# Altium footprint library WP-SMRT.PcbLib: 7 footprints
Each footprint in its own frame and in the unit in brackets; x right, y up, seen from the top. Pads: shape width x height; smd on the part's side, far side on the other; paste and mask are expansions set on the pad; w line width, h text height; cw(c..) or ccw(c..) is an arc to the next point about the centre after c.
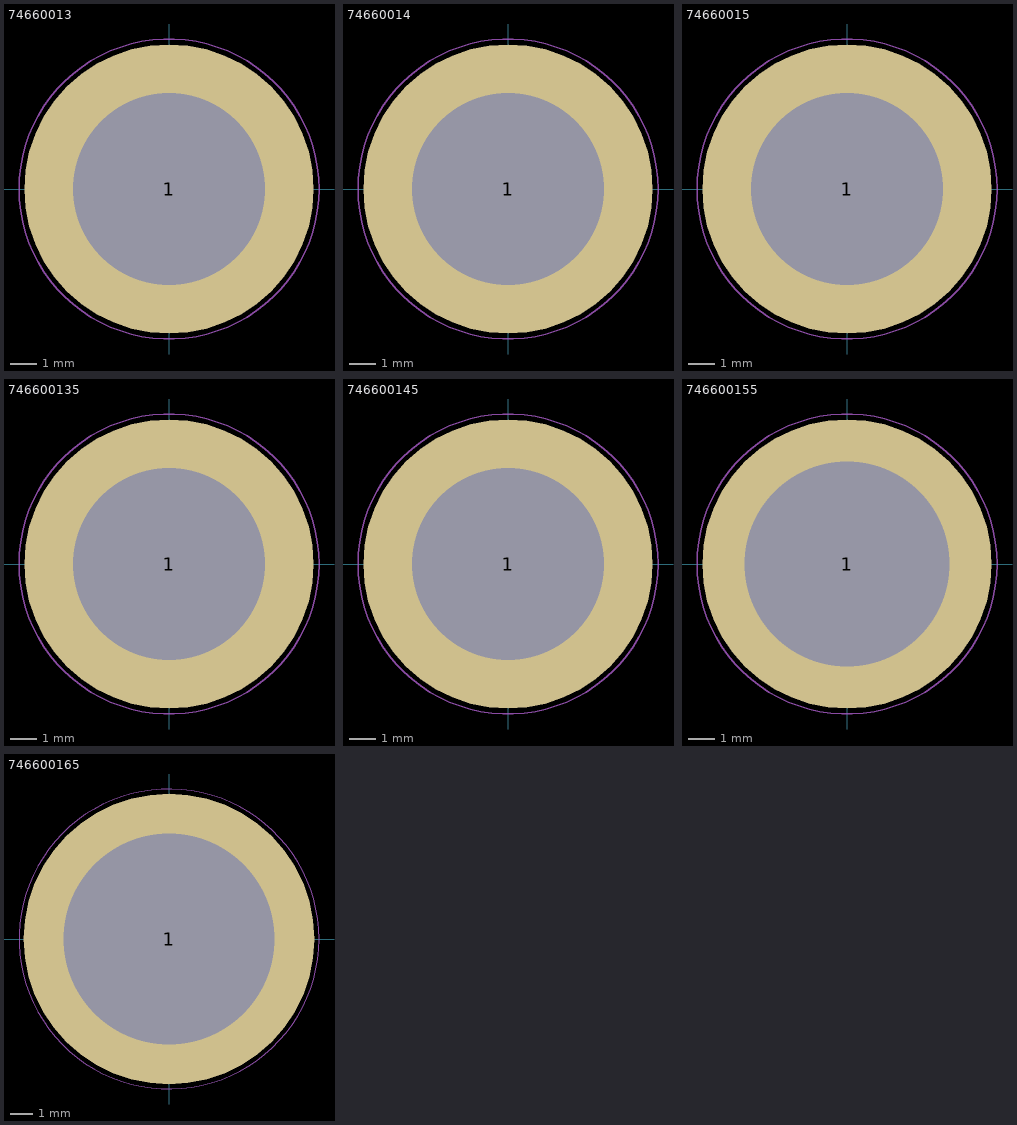
[diagram p0: the footprints below, top view; thin cyan lines are the x and y axes]

## 74660013 [mm] "Bush SMD open"
height 3
pads (1):
  round 11 / inner round 0 / far side round 0 hole 7.3 unplated: 1(0,0)
Top Paste:
  region: 0.5,5.377 0.811,5.348 1.421,5.219 2.013,5.02 2.578,4.755 3.109,4.427 3.598,4.039 4.039,3.598 4.427,3.109 4.755,2.578 5.02,2.013 5.219,1.421 5.348,0.811 5.377,0.5 3.716,0.5 3.663,0.801 3.485,1.384 3.214,1.931 2.859,2.427 2.427,2.859 1.931,3.214 1.385,3.485 0.801,3.663 0.5,3.716
  region: 5.377,-0.5 5.348,-0.811 5.219,-1.421 5.02,-2.013 4.755,-2.578 4.427,-3.109 4.039,-3.598 3.598,-4.039 3.109,-4.427 2.578,-4.755 2.013,-5.02 1.421,-5.219 0.811,-5.348 0.5,-5.377 0.5,-3.716 0.801,-3.663 1.384,-3.485 1.931,-3.214 2.427,-2.859 2.859,-2.427 3.214,-1.931 3.485,-1.385 3.663,-0.801 3.716,-0.5
  region: -0.5,-5.377 -0.811,-5.348 -1.421,-5.219 -2.013,-5.02 -2.578,-4.755 -3.109,-4.427 -3.598,-4.039 -4.039,-3.598 -4.427,-3.109 -4.755,-2.578 -5.02,-2.013 -5.219,-1.421 -5.348,-0.811 -5.377,-0.5 -3.716,-0.5 -3.663,-0.801 -3.485,-1.384 -3.214,-1.931 -2.859,-2.427 -2.427,-2.859 -1.931,-3.214 -1.385,-3.485 -0.801,-3.663 -0.5,-3.716
  region: -5.377,0.5 -5.348,0.811 -5.219,1.421 -5.02,2.013 -4.755,2.578 -4.427,3.109 -4.039,3.598 -3.598,4.039 -3.109,4.427 -2.578,4.755 -2.013,5.02 -1.421,5.219 -0.811,5.348 -0.5,5.377 -0.5,3.716 -0.801,3.663 -1.384,3.485 -1.931,3.214 -2.427,2.859 -2.859,2.427 -3.214,1.931 -3.485,1.385 -3.663,0.801 -3.716,0.5
Top Designator:
  text ".Designator" at -7.498,-0.5 h1.5
Top Component Outline:
  circle w0.1: c0,0 r5
Top 3D Body:
  circle w0.1: c0,0 r5
Top Courtyard:
  circle w0.05: c0,0 r5.7
  lines w0.05: -0.5,0 0.5,0 ; 0,-0.5 0,0.5
3D body "74660013.stp": height 3, standoff -2.6, extent -5,-5 5,5

## 74660014 [mm] "Bush SMD open"
height 3
pads (1):
  round 11 / inner round 0 / far side round 0 hole 7.3 unplated: 1(0,0)
Top Paste:
  region: 0.5,5.377 0.811,5.348 1.421,5.219 2.013,5.02 2.578,4.755 3.109,4.427 3.598,4.039 4.039,3.598 4.427,3.109 4.755,2.578 5.02,2.013 5.219,1.421 5.348,0.811 5.377,0.5 3.717,0.5 3.664,0.801 3.485,1.384 3.214,1.931 2.859,2.427 2.427,2.859 1.931,3.214 1.384,3.485 0.801,3.664 0.5,3.717
  region: -5.377,0.5 -5.348,0.811 -5.219,1.421 -5.02,2.013 -4.755,2.578 -4.427,3.109 -4.039,3.598 -3.598,4.039 -3.109,4.427 -2.578,4.755 -2.013,5.02 -1.421,5.219 -0.811,5.348 -0.5,5.377 -0.5,3.717 -0.801,3.664 -1.384,3.485 -1.931,3.214 -2.427,2.859 -2.859,2.427 -3.214,1.931 -3.485,1.384 -3.664,0.801 -3.717,0.5
  region: -0.5,-5.377 -0.811,-5.348 -1.421,-5.219 -2.013,-5.02 -2.578,-4.755 -3.109,-4.427 -3.598,-4.039 -4.039,-3.598 -4.427,-3.109 -4.755,-2.578 -5.02,-2.013 -5.219,-1.421 -5.348,-0.811 -5.377,-0.5 -3.717,-0.5 -3.664,-0.801 -3.485,-1.384 -3.214,-1.931 -2.859,-2.427 -2.427,-2.859 -1.931,-3.214 -1.384,-3.485 -0.801,-3.664 -0.5,-3.717
  region: 5.377,-0.5 5.348,-0.811 5.219,-1.421 5.02,-2.013 4.755,-2.578 4.427,-3.109 4.039,-3.598 3.598,-4.039 3.109,-4.427 2.578,-4.755 2.013,-5.02 1.421,-5.219 0.811,-5.348 0.5,-5.377 0.5,-3.717 0.801,-3.664 1.384,-3.485 1.931,-3.214 2.427,-2.859 2.859,-2.427 3.214,-1.931 3.485,-1.384 3.664,-0.801 3.717,-0.5
Top Designator:
  text ".Designator" at -7.498,-0.5 h1.5
Top Component Outline:
  circle w0.1: c0,0 r5
Top 3D Body:
  circle w0.1: c0,0 r5
Top Courtyard:
  circle w0.05: c0,0 r5.7
  lines w0.05: -0.5,0 0.5,0 ; 0,-0.5 0,0.5
3D body "74660014.stp": height 3, standoff -2.6, extent -5,-5 5,5

## 74660015 [mm] "Bush SMD open"
height 3
pads (1):
  round 11 / inner round 0 / far side round 0 hole 7.3 unplated: 1(0,0)
Top Paste:
  region: -5.377,0.5 -3.716,0.5 -3.716,0.501 -3.663,0.801 -3.485,1.385 -3.214,1.931 -2.859,2.427 -2.427,2.859 -1.931,3.214 -1.385,3.485 -0.801,3.663 -0.501,3.716 -0.5,3.716 -0.5,5.377 -0.811,5.348 -1.421,5.219 -2.013,5.02 -2.578,4.755 -3.108,4.427 -3.598,4.039 -4.039,3.598 -4.426,3.108 -4.755,2.578 -5.02,2.013 -5.219,1.421 -5.348,0.811
  region: -0.5,-5.377 -0.5,-3.716 -0.501,-3.716 -0.801,-3.663 -1.385,-3.485 -1.931,-3.214 -2.427,-2.859 -2.859,-2.427 -3.214,-1.931 -3.485,-1.385 -3.663,-0.801 -3.716,-0.501 -3.716,-0.5 -5.377,-0.5 -5.348,-0.811 -5.219,-1.421 -5.02,-2.013 -4.755,-2.578 -4.427,-3.108 -4.039,-3.598 -3.598,-4.039 -3.108,-4.426 -2.578,-4.755 -2.013,-5.02 -1.421,-5.219 -0.811,-5.348
  region: 5.377,-0.5 3.716,-0.5 3.716,-0.501 3.663,-0.801 3.485,-1.385 3.214,-1.931 2.859,-2.427 2.427,-2.859 1.931,-3.214 1.385,-3.485 0.801,-3.663 0.501,-3.716 0.5,-3.716 0.5,-5.377 0.811,-5.348 1.421,-5.219 2.013,-5.02 2.578,-4.755 3.108,-4.427 3.598,-4.039 4.039,-3.598 4.426,-3.108 4.755,-2.578 5.02,-2.013 5.219,-1.421 5.348,-0.811
  region: 0.5,5.377 0.5,3.716 0.501,3.716 0.801,3.663 1.385,3.485 1.931,3.214 2.427,2.859 2.859,2.427 3.214,1.931 3.485,1.385 3.663,0.801 3.716,0.501 3.716,0.5 5.377,0.5 5.348,0.811 5.219,1.421 5.02,2.013 4.755,2.578 4.427,3.108 4.039,3.598 3.598,4.039 3.108,4.426 2.578,4.755 2.013,5.02 1.421,5.219 0.811,5.348
Top Designator:
  text ".Designator" at -7.498,-0.5 h1.5
Top Component Outline:
  circle w0.1: c0,0 r5
Top 3D Body:
  circle w0.1: c0,0 r5
Top Courtyard:
  circle w0.05: c0,0 r5.7
  lines w0.05: -0.5,0 0.5,0 ; 0,-0.5 0,0.5
3D body "74660015.stp": height 3, standoff -2.6, extent -5,-5 5,5

## 746600135 [mm] "Bush SMD open"
height 3
pads (1):
  round 11 / inner round 0 / far side round 0 hole 7.3 unplated: 1(0,0)
Top Paste:
  region: -5.377,0.5 -5.348,0.811 -5.219,1.421 -5.02,2.013 -4.755,2.578 -4.427,3.109 -4.039,3.598 -3.598,4.039 -3.109,4.427 -2.578,4.755 -2.013,5.02 -1.421,5.219 -0.811,5.348 -0.5,5.377 -0.5,3.716 -0.801,3.663 -1.384,3.485 -1.931,3.214 -2.427,2.859 -2.859,2.427 -3.214,1.931 -3.485,1.385 -3.663,0.801 -3.716,0.5
  region: -0.5,-5.377 -0.811,-5.348 -1.421,-5.219 -2.013,-5.02 -2.578,-4.755 -3.109,-4.427 -3.598,-4.039 -4.039,-3.598 -4.427,-3.109 -4.755,-2.578 -5.02,-2.013 -5.219,-1.421 -5.348,-0.811 -5.377,-0.5 -3.716,-0.5 -3.663,-0.801 -3.485,-1.384 -3.214,-1.931 -2.859,-2.427 -2.427,-2.859 -1.931,-3.214 -1.385,-3.485 -0.801,-3.663 -0.5,-3.716
  region: 5.377,-0.5 5.348,-0.811 5.219,-1.421 5.02,-2.013 4.755,-2.578 4.427,-3.109 4.039,-3.598 3.598,-4.039 3.109,-4.427 2.578,-4.755 2.013,-5.02 1.421,-5.219 0.811,-5.348 0.5,-5.377 0.5,-3.716 0.801,-3.663 1.384,-3.485 1.931,-3.214 2.427,-2.859 2.859,-2.427 3.214,-1.931 3.485,-1.385 3.663,-0.801 3.716,-0.5
  region: 0.5,5.377 0.811,5.348 1.421,5.219 2.013,5.02 2.578,4.755 3.109,4.427 3.598,4.039 4.039,3.598 4.427,3.109 4.755,2.578 5.02,2.013 5.219,1.421 5.348,0.811 5.377,0.5 3.716,0.5 3.663,0.801 3.485,1.384 3.214,1.931 2.859,2.427 2.427,2.859 1.931,3.214 1.385,3.485 0.801,3.663 0.5,3.716
Top Designator:
  text ".Designator" at -7.498,-0.5 h1.5
Top Component Outline:
  circle w0.1: c0,0 r5
Top 3D Body:
  circle w0.1: c0,0 r5
Top Courtyard:
  circle w0.05: c0,0 r5.7
  lines w0.05: -0.5,0 0.5,0 ; 0,-0.5 0,0.5
3D body "746600135.stp": height 3, standoff -2.6, extent -5,-5 5,5

## 746600145 [mm] "Bush SMD open"
height 3
pads (1):
  round 11 / inner round 0 / far side round 0 hole 7.3 unplated: 1(0,0)
Top Paste:
  region: 5.377,-0.5 5.348,-0.811 5.219,-1.421 5.02,-2.013 4.755,-2.578 4.427,-3.109 4.039,-3.598 3.598,-4.039 3.109,-4.427 2.578,-4.755 2.013,-5.02 1.421,-5.219 0.811,-5.348 0.5,-5.377 0.5,-3.717 0.801,-3.664 1.384,-3.485 1.931,-3.214 2.427,-2.859 2.859,-2.427 3.214,-1.931 3.485,-1.384 3.664,-0.801 3.717,-0.5
  region: -0.5,-5.377 -0.811,-5.348 -1.421,-5.219 -2.013,-5.02 -2.578,-4.755 -3.109,-4.427 -3.598,-4.039 -4.039,-3.598 -4.427,-3.109 -4.755,-2.578 -5.02,-2.013 -5.219,-1.421 -5.348,-0.811 -5.377,-0.5 -3.717,-0.5 -3.664,-0.801 -3.485,-1.384 -3.214,-1.931 -2.859,-2.427 -2.427,-2.859 -1.931,-3.214 -1.384,-3.485 -0.801,-3.664 -0.5,-3.717
  region: -5.377,0.5 -5.348,0.811 -5.219,1.421 -5.02,2.013 -4.755,2.578 -4.427,3.109 -4.039,3.598 -3.598,4.039 -3.109,4.427 -2.578,4.755 -2.013,5.02 -1.421,5.219 -0.811,5.348 -0.5,5.377 -0.5,3.717 -0.801,3.664 -1.384,3.485 -1.931,3.214 -2.427,2.859 -2.859,2.427 -3.214,1.931 -3.485,1.384 -3.664,0.801 -3.717,0.5
  region: 0.5,5.377 0.811,5.348 1.421,5.219 2.013,5.02 2.578,4.755 3.109,4.427 3.598,4.039 4.039,3.598 4.427,3.109 4.755,2.578 5.02,2.013 5.219,1.421 5.348,0.811 5.377,0.5 3.717,0.5 3.664,0.801 3.485,1.384 3.214,1.931 2.859,2.427 2.427,2.859 1.931,3.214 1.384,3.485 0.801,3.664 0.5,3.717
Top Designator:
  text ".Designator" at -7.498,-0.5 h1.5
Top Component Outline:
  circle w0.1: c0,0 r5
Top 3D Body:
  circle w0.1: c0,0 r5
Top Courtyard:
  circle w0.05: c0,0 r5.7
  lines w0.05: -0.5,0 0.5,0 ; 0,-0.5 0,0.5
3D body "746600145.stp": height 3, standoff -2.6, extent -5,-5 5,5

## 746600155 [mm] "Bush SMD open"
height 3
pads (1):
  round 11 / inner round 0 / far side round 0 hole 7.8 unplated: 1(0,0)
Top Paste:
  region: 0.5,3.969 0.717,3.935 1.145,3.833 1.559,3.684 1.954,3.49 2.325,3.255 2.669,2.98 2.98,2.669 3.255,2.325 3.49,1.954 3.684,1.559 3.833,1.145 3.935,0.717 3.969,0.5 5.377,0.5 5.348,0.811 5.219,1.421 5.02,2.013 4.755,2.578 4.427,3.109 4.039,3.598 3.598,4.039 3.109,4.427 2.578,4.755 2.013,5.02 1.421,5.219 0.811,5.348 0.5,5.377
  region: -3.969,0.5 -3.935,0.717 -3.833,1.145 -3.684,1.559 -3.49,1.954 -3.255,2.325 -2.98,2.669 -2.669,2.98 -2.325,3.255 -1.954,3.49 -1.559,3.684 -1.145,3.833 -0.717,3.935 -0.5,3.969 -0.5,5.377 -0.811,5.348 -1.421,5.219 -2.013,5.02 -2.578,4.755 -3.109,4.427 -3.598,4.039 -4.039,3.598 -4.427,3.109 -4.755,2.578 -5.02,2.013 -5.219,1.421 -5.348,0.811 -5.377,0.5
  region: -0.5,-3.969 -0.717,-3.935 -1.145,-3.833 -1.559,-3.684 -1.954,-3.49 -2.325,-3.255 -2.669,-2.98 -2.98,-2.669 -3.255,-2.325 -3.49,-1.954 -3.684,-1.559 -3.833,-1.145 -3.935,-0.717 -3.969,-0.5 -5.377,-0.5 -5.348,-0.811 -5.219,-1.421 -5.02,-2.013 -4.755,-2.578 -4.427,-3.109 -4.039,-3.598 -3.598,-4.039 -3.109,-4.427 -2.578,-4.755 -2.013,-5.02 -1.421,-5.219 -0.811,-5.348 -0.5,-5.377
  region: 3.969,-0.5 3.935,-0.717 3.833,-1.145 3.684,-1.559 3.49,-1.954 3.255,-2.325 2.98,-2.669 2.669,-2.98 2.325,-3.255 1.954,-3.49 1.559,-3.684 1.145,-3.833 0.717,-3.935 0.5,-3.969 0.5,-5.377 0.811,-5.348 1.421,-5.219 2.013,-5.02 2.578,-4.755 3.109,-4.427 3.598,-4.039 4.039,-3.598 4.427,-3.109 4.755,-2.578 5.02,-2.013 5.219,-1.421 5.348,-0.811 5.377,-0.5
Top Designator:
  text ".Designator" at -7.498,-0.5 h1.5
Top Component Outline:
  circle w0.1: c0,0 r5
Top 3D Body:
  circle w0.1: c0,0 r5
Top Courtyard:
  circle w0.05: c0,0 r5.7
  lines w0.05: -0.5,0 0.5,0 ; 0,-0.5 0,0.5
3D body "746600155.stp": height 3, standoff -2.6, extent -5,-5 5,5

## 746600165 [mm] "Bush SMD open"
height 3
pads (1):
  round 12.8 / inner round 0 / far side round 0 hole 9.3 unplated: 1(0,0)
Top Paste:
  region: 0.5,6.28 0.5,4.724 0.767,4.688 1.292,4.571 1.8,4.396 2.286,4.164 2.742,3.879 3.163,3.544 3.544,3.163 3.879,2.742 4.164,2.286 4.396,1.8 4.571,1.292 4.688,0.767 4.724,0.5 6.28,0.5 6.251,0.87 6.105,1.598 5.876,2.303 5.565,2.977 5.177,3.61 4.717,4.192 4.192,4.717 3.61,5.177 2.977,5.565 2.303,5.876 1.598,6.105 0.87,6.251
  region: 6.28,-0.5 4.724,-0.5 4.688,-0.767 4.571,-1.292 4.396,-1.8 4.164,-2.286 3.879,-2.742 3.544,-3.163 3.163,-3.544 2.742,-3.879 2.286,-4.164 1.8,-4.396 1.292,-4.571 0.767,-4.688 0.5,-4.724 0.5,-6.28 0.87,-6.251 1.598,-6.105 2.303,-5.876 2.977,-5.565 3.61,-5.177 4.192,-4.717 4.717,-4.192 5.177,-3.61 5.565,-2.977 5.876,-2.303 6.105,-1.598 6.251,-0.87
  region: -0.5,-6.28 -0.5,-4.724 -0.767,-4.688 -1.292,-4.571 -1.8,-4.396 -2.286,-4.164 -2.742,-3.879 -3.163,-3.544 -3.544,-3.163 -3.879,-2.742 -4.164,-2.286 -4.396,-1.8 -4.571,-1.292 -4.688,-0.767 -4.724,-0.5 -6.28,-0.5 -6.251,-0.87 -6.105,-1.598 -5.876,-2.303 -5.565,-2.977 -5.177,-3.61 -4.717,-4.192 -4.192,-4.717 -3.61,-5.177 -2.977,-5.565 -2.303,-5.876 -1.598,-6.105 -0.87,-6.251
  region: -6.28,0.5 -4.724,0.5 -4.688,0.767 -4.571,1.292 -4.396,1.8 -4.164,2.286 -3.879,2.742 -3.544,3.163 -3.163,3.544 -2.742,3.879 -2.286,4.164 -1.8,4.396 -1.292,4.571 -0.767,4.688 -0.5,4.724 -0.5,6.28 -0.87,6.251 -1.598,6.105 -2.303,5.876 -2.977,5.565 -3.61,5.177 -4.192,4.717 -4.717,4.192 -5.177,3.61 -5.565,2.977 -5.876,2.303 -6.105,1.598 -6.251,0.87
Top Designator:
  text ".Designator" at -7.498,-0.5 h1.5
Top Component Outline:
  circle w0.1: c0,0 r6
Top 3D Body:
  circle w0.1: c0,0 r6
Top Courtyard:
  circle w0.05: c0,0 r6.6
  lines w0.05: -0.5,0 0.5,0 ; 0,-0.5 0,0.5
3D body "746600165.stp": height 3, standoff -2.6, extent -6,-6 6,6